# Altium schematic symbol library NOUMANPCBLIB.SchLib: 638 symbols (part 5 of 6)
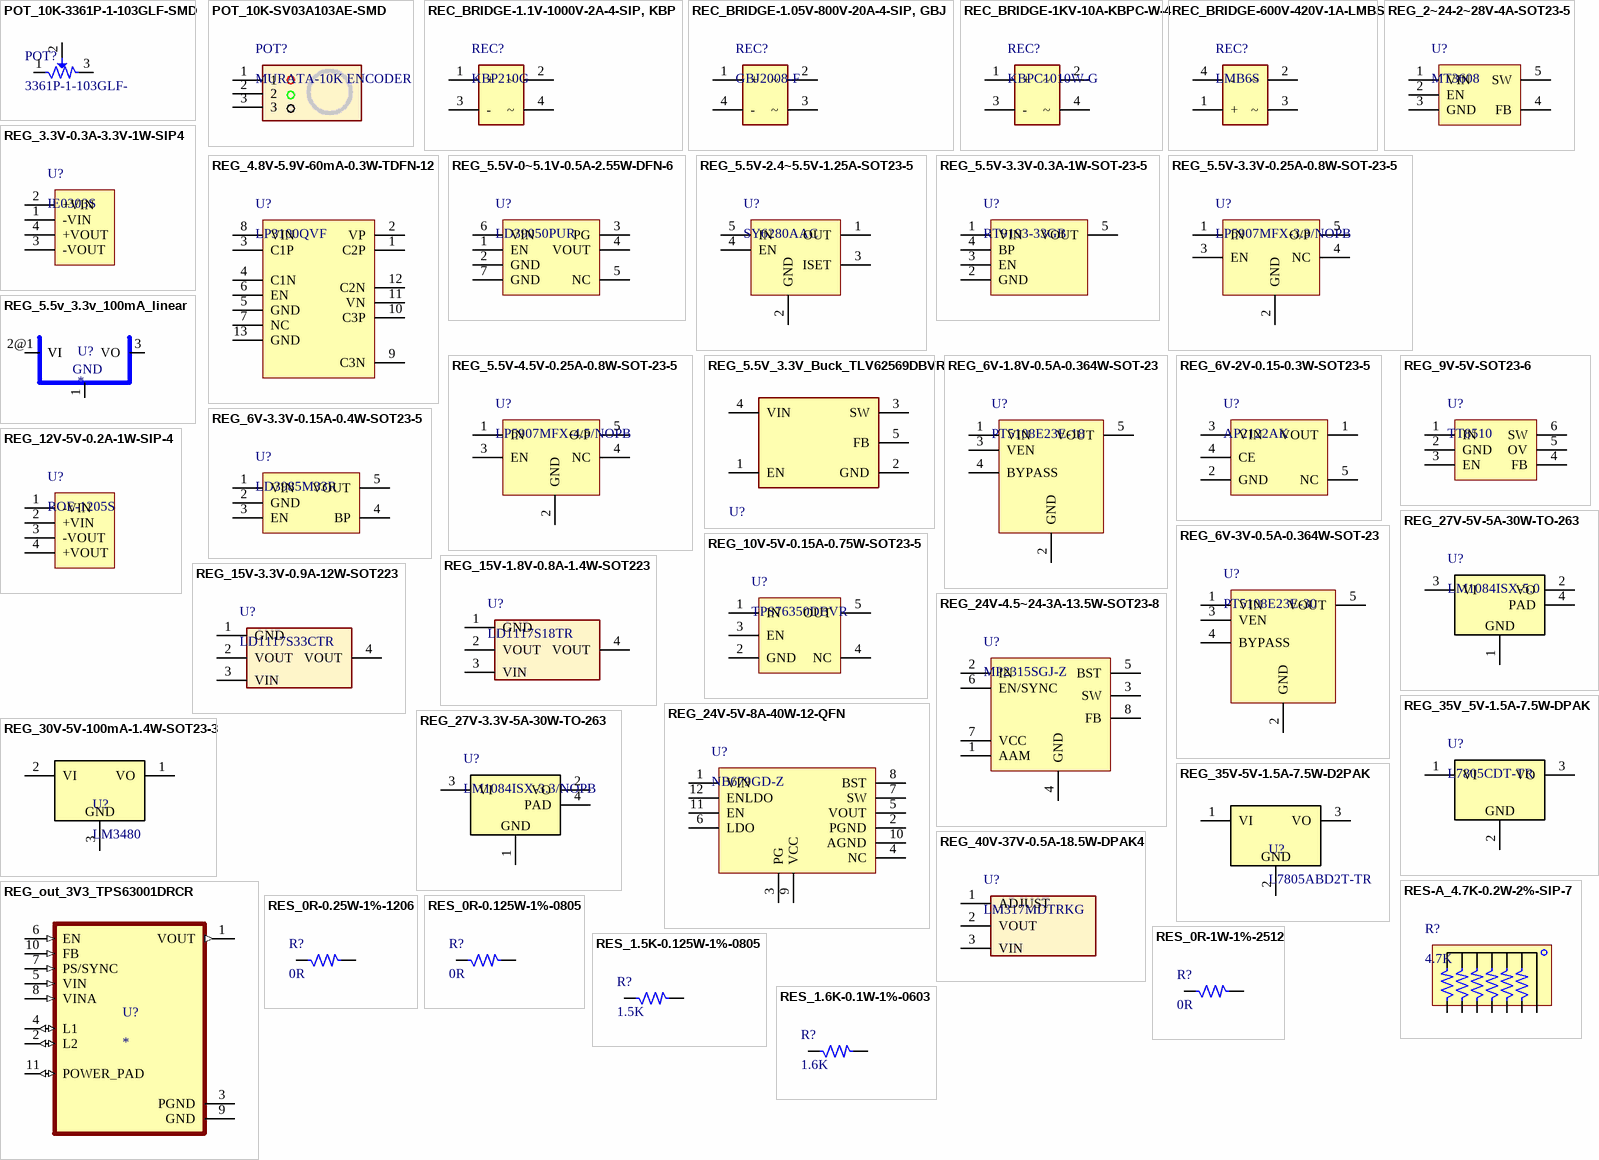
[diagram p22: symbols POT_10K-3361P-1-103GLF-SMD to RES_1.6K-0.1W-1%-0603]

## REG_2~24-2~28V-4A-SOT23-5
designator U?, comment MT3608
The MT3608 is a constant frequency, 6-pin SOT23 / current mode step-up converter; Manufacturer: AEROSEMI; Alternate Part Number-1: NA; Manufacturer Part Number: MT3608; Case/Package: SOT-23-5; Supplier-1: NA; Supplier Part Number-1: NA
footprint SOT23-5 (CASE: SOT)
pins: 1 VIN, 2 EN, 3 GND, 4 FB, 5 SW

## REG_3.3V-0.3A-3.3V-1W-SIP4
designator U?, comment IE0303S
Isolated Module DC DC Converter 1 Output 3.3V 300mA 2.97V - 3.63V Input; Manufacturer: Texas Instruments; Alternate Part Number-1: NA; Manufacturer Part Number: IE0303S; Case/Package: SIP4; Supplier-1: TANOTIS; Supplier Part Number-1: IE0303S
footprint SIP4_100_472_39X59_TH (SIP4)
pins: 1 -VIN, 2 +VIN, 3 -VOUT, 4 +VOUT

## REG_4.8V-5.9V-60mA-0.3W-TDFN-12
designator U?, comment LP3100QVF
TDFN-12 DC-DC Converters RoHS; Manufacturer: LOWPOWER; Alternate Part Number-1: NA; Manufacturer Part Number: LP3100QVF; Case/Package: TDFN-12; Supplier-1: LCSC; Supplier Part Number-1: C517004
footprint TDFN-12_19.6_170_33X10_SMD (TDFN-12 Package)
pins: 1 C2P, 2 VP, 3 C1P, 4 C1N, 5 GND, 6 EN, 7 NC, 8 VIN, 9 C3N, 10 C3P, 11 VN, 12 C2N, 13 GND

## REG_5.5V-0~5.1V-0.5A-2.55W-DFN-6
designator U?, comment LD39050PUR
Adjustable 5.5V 0.8V 500mA DFN-6 Linear Voltage Regulators RoHS; Manufacturer: STMicroelectronics; Alternate Part Number-1: NA; Manufacturer Part Number: LD39050PUR; Case/Package: DFN-6; Supplier-1: LCSC; Supplier Part Number-1: C222094
footprint DFN-6_37.4_165_33X15_SMD (DFN Package)
pins: 1 EN, 2 GND, 3 PG, 4 VOUT, 5 NC, 6 VIN, 7 GND

## REG_5.5V-2.4~5.5V-1.25A-SOT23-5
designator U?, comment SY6280AAC
SOT-23-5 PMIC - Power Distribution Switches RoHS; Manufacturer: Silergy Corp; Alternate Part Number-1: NA; Manufacturer Part Number: SY6280AAC; Case/Package: SOT-23-5; Supplier-1: LCSC; Supplier Part Number-1: C55136
footprint SOT23-5 (CASE: SOT)
pins: 1 OUT, 2 GND, 3 ISET, 4 EN, 5 IN

## REG_5.5V-3.3V-0.3A-1W-SOT-23-5
designator U?, comment RT9193-33GB
Linear Voltage Regulator IC 1 Output 300mA SOT-23-5; Manufacturer: Richtek USA Inc.; Alternate Part Number-1: NA; Manufacturer Part Number: RT9193-33GB; Supplier-1: LCSC; Supplier Part Number-1: C15651; Case/Package: SOT-23-5
footprint SOT23-5 (CASE: SOT)
pins: 1 VIN, 2 GND, 3 EN, 4 BP, 5 VOUT

## REG_5.5V-3.3V-0.25A-0.8W-SOT-23-5
designator U?, comment LP5907MFX-3.3/NOPB
Linear Voltage Regulator IC 1 Output 250mA SOT-23-5; Manufacturer: Recom; Alternate Part Number-1: NA; Manufacturer Part Number: LP5907MFX-3.3/NOPB; Case/Package: SOT-23-5; Supplier-1: SP ROAD; Supplier Part Number-1: LP5907MFX-3.3/NOPB
footprint SOT23-5 (CASE: SOT)
pins: 1 IN, 2 GND, 3 EN, 4 NC, 5 O/P

## REG_5.5V-4.5V-0.25A-0.8W-SOT-23-5
designator U?, comment LP5907MFX-4.5/NOPB
Linear Voltage Regulator IC 1 Output 250mA SOT-23-5; Manufacturer: STMicroelectronics; Alternate Part Number-1: NA; Manufacturer Part Number: LP5907MFX-4.5/NOPB; Case/Package: SOT-23-5; Supplier-1: SP ROAD; Supplier Part Number-1: LP5907MFX-4.5/NOPB
footprint SOT23-5 (CASE: SOT)
pins: 1 IN, 2 GND, 3 EN, 4 NC, 5 O/P

## REG_5.5v_3.3v_100mA_linear
designator U?
Smd c.Int. HT-7533-1 (Sot-89)Tape&Reel h Oltek.; MF: Holtek; MP: HT7533-1; Package: SOT-89 Holtek; Price: None; Value: *; SnapEDA_Link: https://www.snapeda.com/parts/HT7533-1/Holtek/view-part/?ref=snap; Availability: Not in stock; Check_prices: https://www.snapeda.com/parts/HT7533-1/Holtek/view-part/?ref=eda
footprint HT-7533-1
pins: 1 GND, 2 VI, 2@1 VI, 3 VO

## REG_5.5V_3.3V_Buck_TLV62569DBVR
designator U?  (value not drawn)
TLV62569DBVR
footprint Texas_Instruments_DBV0005A_IPC_A
pins: 1 EN, 2 GND (power), 3 SW (power), 4 VIN (power), 5 FB

## REG_6V-1.8V-0.5A-0.364W-SOT-23
designator U?, comment PT5108E23E-18
The PT5108 is a low-dropout voltage regulator designed for portable applications that require both low noise performance / and board space.; Manufacturer: POWTECH; Alternate Part Number-1: NA; Manufacturer Part Number: PT5108E23E-1; Case/Package: SOT-23; Supplier-1: NA; Supplier Part Number-1: NA
footprint SOT23-5 (CASE: SOT)
pins: 1 VIN, 2 GND, 3 VEN, 4 BYPASS, 5 VOUT

## REG_6V-2V-0.15-0.3W-SOT23-5
designator U?, comment AP2122AK
Linear Voltage Regulator IC Positive Fixed 1 Output 150mA SOT-23-5; Manufacturer: TI National Semiconductor; Manufacturer Part Number: AP2122AK-3.0TRG1; Alternate Part Number-1: NA; Case/Package: SOT23-5; Supplier-1: LCSC; Supplier Part Number-1: AP2122AK
footprint SOT23-5 (CASE: SOT)
pins: 1 VOUT, 2 GND, 3 VIN, 4 CE, 5 NC

## REG_6V-3.3V-0.15A-0.4W-SOT23-5
designator U?, comment LD3985M33R
Linear Voltage Regulator IC 1 Output 150mA SOT-23-5; Manufacturer: TI National Semiconductor; Alternate Part Number-1: NA; Manufacturer Part Number: LD3985M33R; Case/Package: SOT23-5; Supplier-1: LCSC; Supplier Part Number-1: LD3985M33R
footprint SOT23-5 (CASE: SOT)
pins: 1 VIN, 2 GND, 3 EN, 4 BP, 5 VOUT

## REG_6V-3V-0.5A-0.364W-SOT-23
designator U?, comment PT5108E23E-30
The PT5108 is a low-dropout voltage regulator designed for portable applications that require both low noise performance / and board space.; Manufacturer: POWTECH; Alternate Part Number-1: NA; Manufacturer Part Number: PT5108E23E-30; Case/Package: SOT-23; Supplier-1: NA; Supplier Part Number-1: NA
footprint SOT23-5 (CASE: SOT)
pins: 1 VIN, 2 GND, 3 VEN, 4 BYPASS, 5 VOUT

## REG_9V-5V-SOT23-6
designator U?, comment TT8510
Boost Converter IC-SOT-23-6 Pckage; Manufacturer: NA; Manufacturer Part Number: TT8510; Case/Package: SOT-23-6; Supplier-1: NA; Supplier Part Number-1: NA; Alternate Part Number-1: NA
footprint SOT23-6 (CASE: SOT)
pins: 1 IN, 2 GND, 3 EN, 4 FB, 5 OV, 6 SW

## REG_10V-5V-0.15A-0.75W-SOT23-5
designator U?, comment TPS76350DBVR
Linear Voltage Regulator IC 1 Output 150mA SOT-23-5; Manufacturer: XP Power; Alternate Part Number-1: NA; Manufacturer Part Number: TPS76350DBVR; Case/Package: SOT23-5; Supplier-1: ARROW; Supplier Part Number-1: TPS76350DBVR
footprint SOT23-5 (CASE: SOT)
pins: 1 IN, 2 GND, 3 EN, 4 NC, 5 OUT

## REG_12V-5V-0.2A-1W-SIP-4
designator U?, comment ROE-1205S
Isolated Module DC DC Converter 1 Output 5V 200mA 10.8V - 13.2V Input; Manufacturer: Texas Instruments; Alternate Part Number-1: NA; Manufacturer Part Number: ROE-1205S; Case/Package: SIP-4; Supplier-1: ARROW; Supplier Part Number-1: ROE-1205S
footprint SIP4_100_472_39X59_TH (SIP4)
pins: 1 -VIN, 2 +VIN, 3 -VOUT, 4 +VOUT

## REG_15V-1.8V-0.8A-1.4W-SOT223
designator U?, comment LD1117S18TR
LDO Voltage Regulators 1.8V 0.8A Positive; Manufacturer: STMicroelectronics; Alternate Part Number-1: NA; Manufacturer Part Number: LD1117S18TR; Case/Package: SOT-223-3; Supplier-1: Mouser; Supplier Part Number-1: 511-LD1117S18-TR
footprint SOT223_3 (CASE: SOT223)
pins: 1 GND, 2 VOUT, 3 VIN, 4 VOUT

## REG_15V-3.3V-0.9A-12W-SOT223
designator U?, comment LD1117S33CTR
Linear Voltage Regulator IC 1 Output 800mA SOT-223; Manufacturer: STMicroelectronics; Alternate Part Number-1: NA; Manufacturer Part Number: LD1117S33CTR; Case/Package: SOT223; Supplier-1: SP ROAD; Supplier Part Number-1: LD1117S33CTR
footprint SOT223_3
pins: 1 GND, 2 VOUT, 3 VIN, 4 VOUT

## REG_24V-4.5~24-3A-13.5W-SOT23-8
designator U?, comment MP2315SGJ-Z
Switching Voltage Regulators 3A 24V Hi Effc.Sync Step Down Converter; Manufacturer: Monolithic Power Systems (MPS); Alternate Part Number-1: NA; Manufacturer Part Number: MP2315SGJ-Z; Case/Package: SOT-23-8; Supplier-1: Mouser; Supplier Part Number-1: 946-MP2315SGJ-Z
footprint SOT23-8 (Case-SOT)
pins: 1 AAM, 2 IN, 3 SW, 4 GND, 5 BST, 6 EN/SYNC, 7 VCC, 8 FB

## REG_24V-5V-8A-40W-12-QFN
designator U?, comment NB679GD-Z
PMIC - Voltage Regulators - Linear + Switching 2 Output Step-Down (Buck) Synchronous (1), Linear (LDO) (1) 700kHz 12-QFN (2x3); Manufacturer: Monolithic Power Systems Inc.; Alternate Part Number-1: NA; Manufacturer Part Number: NB679GD-Z; Case/Package: QFN-12; Supplier-1: Digikey; Supplier Part Number-1: 1589-1825-1-ND
footprint QFN12_19.6_141_27.5X9.84_SMD (QFN Package)
pins: 1 VIN, 2 PGND, 3 PG, 4 NC, 5 VOUT, 6 LDO, 7 SW, 8 BST, 9 VCC, 10 AGND, 11 EN, 12 ENLDO

## REG_27V-3.3V-5A-30W-TO-263
designator U?, comment LM1084ISX-3.3/NOPB
Linear Voltage Regulator IC 1 Output 5A DDPAK/TO-263-3; Manufacturer: STMicroelectronics; Alternate Part Number-1: NA; Manufacturer Part Number: LM1084ISX-3.3/NOPB; Case/Package: TO-263; Supplier-1: Mouser; Supplier Part Number-1: 926-LM1084ISX33NOPB
footprint TO-263-3_102_433_181X45_SMD
pins: 1, 2 VO, 3 VI, 4 PAD
text: GND

## REG_27V-5V-5A-30W-TO-263
designator U?, comment LM1084ISX-5.0
Linear Voltage Regulator IC 1 Output 5A DDPAK/TO-263-3; Manufacturer: ON Semiconductor; Manufacturer Part Number: LM1084ISX-5.0/NOPBCT-ND; Alternate Part Number-1: SPX29300T-L-5-0/TR; Case/Package: TO-263; Supplier-1: Mouser; Supplier Part Number-1: 926-LM1084ISX50NOPB
footprint TO-263-3_102_433_181X45_SMD
pins: 1, 2 VO, 3 VI, 4 PAD
text: GND

## REG_30V-5V-100mA-1.4W-SOT23-3
designator U?, comment LM3480
Linear Voltage Regulator IC 1 Output 100mA SOT-23-3; Manufacturer: Texas Instruments; Manufacturer Part Number: LM3480IM3-5.0/NOPB; Alternate Part Number-1: NA; Case/Package: SOT23-3; Supplier-1: CATLOG COMPONENTS; Supplier Part Number-1: LM3480IM3-5.0/NOPB
footprint SOT 23-3
pins: 1 VO, 2 VI, 3
text: GND

## REG_35V-5V-1.5A-7.5W-D2PAK
designator U?, comment L7805ABD2T-TR
Linear Voltage Regulator IC 1 Output 1.5A D2PAK; Manufacturer: Texas Instruments; Alternate Part Number-1: NA; Manufacturer Part Number: L7805ABD2T-TR; Case/Package: D2PAK; Supplier-1: SP ROAD; Supplier Part Number-1: L7805ABD2T-TR
footprint D2PAK4_94.4_433_43X133_SMD
pins: 1 VI, 2, 3 VO
text: GND

## REG_35V_5V-1.5A-7.5W-DPAK
designator U?, comment L7805CDT-TR
Linear Voltage Regulator IC 1 Output 1.5A DPAK; Manufacturer: Diodes; Alternate Part Number-1: CJ7805 3%; Manufacturer Part Number: L7805CDT-TR; Case/Package: DPAK; Supplier-1: SP ROAD; Supplier Part Number-1: L7805CDT-TR
footprint DPAK_118_446_112X59_SMD (CASE: DPAK)
pins: 1 VI, 2, 3 VO
text: GND

## REG_40V-37V-0.5A-18.5W-DPAK4
designator U?, comment LM317MDTRKG
Linear Voltage Regulator IC Positive Adjustable 1 Output 500mA DPAK; Manufacturer: STMicroelectronics; Alternate Part Number-1: NA; Manufacturer Part Number: LM317MDTRKG; Case/Package: DPAK4; Supplier-1: SP ROAD; Supplier Part Number-1: LM317MDTRKG
footprint DPAK_118_446_112X59_SMD (CASE: DPAK)
pins: 1 ADJUST, 2 VOUT, 3 VIN

## REG_out_3V3_TPS63001DRCR
designator U?
96% Buck-Boost Converter with 1.7A Current Switches, 3.3V fixed Output voltage in 3x3 QFN 10-VSON -40 to 85; MF: Texas Instruments; MP: TPS63001DRCR; Texas_Instruments-Purchase-URL: https://snapeda.com/shop?store=Texas+Instruments&id=214718; Value: *; Availability: Good; SnapEDA_Link: https://www.snapeda.com/parts/TPS63001DRCR/Texas%20Instruments/view-part/214718/?ref=snap; Mouser-Purchase-URL: https://snapeda.com/shop?store=Mouser&id=214718; Package: VSON-10 Texas Instruments; DigiKey-Purchase-URL: https://snapeda.com/shop?store=DigiKey&id=214718; Price: None
footprint VREG_V62/16624-01YE
pins: 1 VOUT (out), 2 L2 (io), 3 PGND (power), 4 L1 (io), 5 VIN (in), 6 EN (in), 7 PS/SYNC (in), 8 VINA (in), 9 GND (power), 10 FB (in), 11 POWER_PAD (io)

## RES-A_4.7K-0.2W-2%-SIP-7
designator R?, comment 4.7K
4.7k Ohm ±2% 200mW Power Per Element Bussed Resistor Network/Array ±100ppm/°C 7-SIP; Manufacturer: Bourns Inc.; Manufacturer Part Number: 4607X-101-472LF; Alternate Part Number-1: NA; Case/Package: SIP-7; Supplier-1: Arrow; Supplier Part Number-1: 4607X-101-472LF
footprint RES_SIP-7 (Resister Array)
pins: 1, 2, 3, 4, 5, 6, 7

## RES_0R-0.25W-1%-1206
designator R?, comment 0R
0 Ohms Jumper 0.25W, 1/4W Chip Resistor 1206 (3216 Metric) Automotive AEC-Q200 Thick Film; Manufacturer: Walsin; Manufacturer Part Number: WR12X000PTL; Alternate Part Number-1: NA; Case/Package: 1206; Supplier-1: SIRICOM; Supplier Part Number-1: WR12X000PTL
footprint RES_1206
pins: 1, 2

## RES_0R-0.125W-1%-0805
designator R?, comment 0R
0 Ohms Jumper 0.125W, 1/8W Chip Resistor 0805 (2012 Metric) Automotive AEC-Q200 Thick Film; Manufacturer: Walsin; Manufacturer Part Number: WR08X000PTL; Case/Package: 0805; Supplier-1: SIRICOM; Supplier Part Number-1: WR08X000PTL; Alternate Part Number-1: WR08X000PTL
footprint RES_0805 (Resister)
pins: 1, 2

## RES_0R-1W-1%-2512
designator R?, comment 0R
0 Ohms Jumper 1W Chip Resistor 2512 (6432 Metric) Moisture Resistant Thick Film; Manufacturer: Yageo; Manufacturer Part Number: RC2512JK-070RL; Alternate Part Number-1: NA; Case/Package: 2512; Supplier-1: SIRICOM; Supplier Part Number-1: NA
footprint RES_2512 (CASE: 2512)
pins: 1, 2

## RES_1.5K-0.125W-1%-0805
designator R?, comment 1.5K
1.5 kOhms ±1% 0.125W, 1/8W Chip Resistor 0805 (2012 Metric) Thick Film; Manufacturer: TE Connectivity Passive Product; Manufacturer Part Number: CRG0805F1K5; Alternate Part Number-1: NA; Case/Package: 0805; Supplier-1: SIRICOM; Supplier Part Number-1: NA
footprint RES_0805 (Resister)
pins: 1, 2

## RES_1.6K-0.1W-1%-0603
designator R?, comment 1.6K
1.6 kOhms ±1% 0.1W, 1/10W Chip Resistor 0603 (1608 Metric) Thin Film; Manufacturer: NA; Manufacturer Part Number: NA; Case/Package: 0603; Supplier-1: SIRICOM; Supplier Part Number-1: NA; Alternate Part Number-1: NA
footprint RES_0603
pins: 1, 2

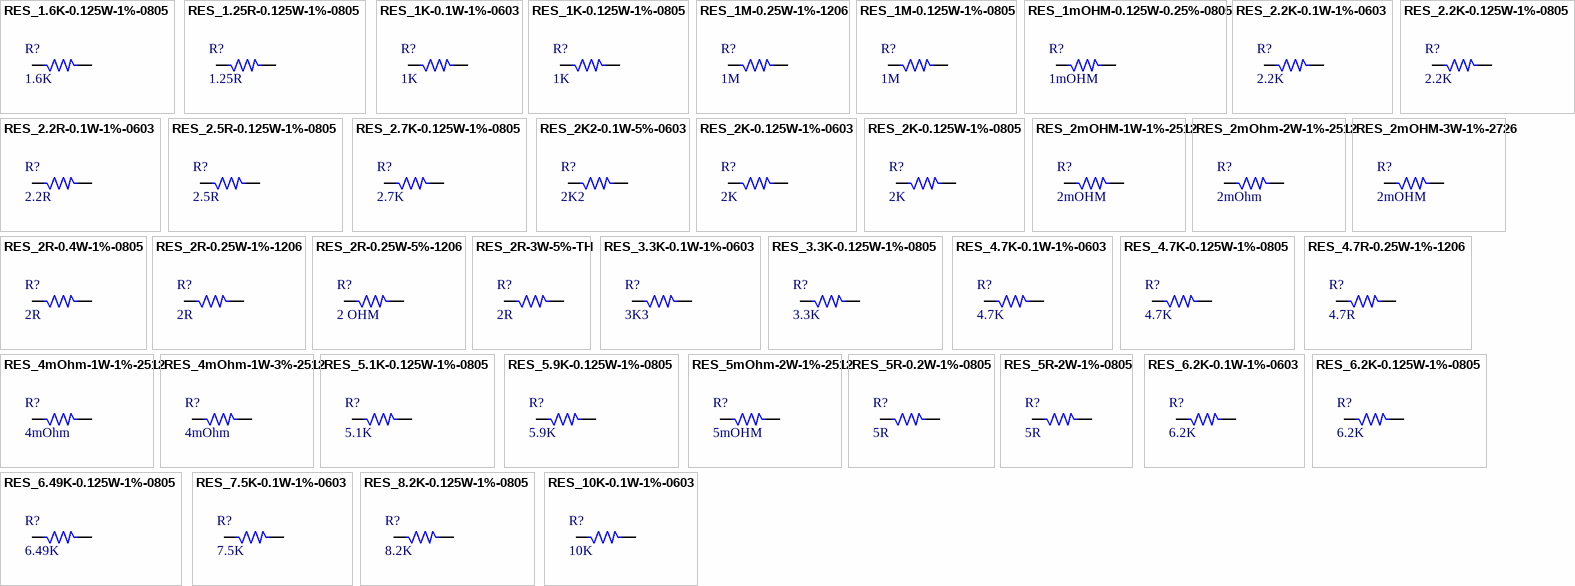
[diagram p15: symbols RES_1.6K-0.125W-1%-0805 to RES_10K-0.1W-1%-0603]

## RES_1.6K-0.125W-1%-0805
designator R?, comment 1.6K
1.6 kOhms ±1% 0.125W, 1/8W Chip Resistor 0805 (2012 Metric) Anti-Sulfur, Automotive AEC-Q200 Thin Film; Manufacturer: Walsin; Manufacturer Part Number: WR08X1601FTL; Alternate Part Number-1: NA; Case/Package: 0805; Supplier-1: SIRICOM; Supplier Part Number-1: WR08X1601FTL
footprint RES_0805
pins: 1, 2

## RES_1.25R-0.125W-1%-0805
designator R?, comment 1.25R
Thick Film Resistors 1/8watt 1.24ohms 1%; Manufacturer: Vishay / Dale; Manufacturer Part Number: CRCW08051R24FKEA; Alternate Part Number-1: NA; Case/Package: 0805; Supplier-1: SIRICOM; Supplier Part Number-1: NA
footprint RES_0805 (Resister)
pins: 1, 2

## RES_1K-0.1W-1%-0603
designator R?, comment 1K
1 kOhms ±1% 0.1W, 1/10W Chip Resistor 0603 (1608 Metric) Automotive AEC-Q200 Thick Film; Manufacturer: Walsin; Manufacturer Part Number: WR06X1001FTL; Alternate Part Number-1: 0603WAF1001T5E; Case/Package: 0603; Supplier-1: SIRICOM; Supplier Part Number-1: WR06X1001FTL
footprint RES_0603
pins: 1, 2

## RES_1K-0.125W-1%-0805
designator R?, comment 1K
1 kOhms ±1% 0.125W, 1/8W Chip Resistor 0805 (2012 Metric) Moisture Resistant Thick Film; Manufacturer: Walsin; Manufacturer Part Number: WR08X1001FTL; Case/Package: 0805; Supplier-1: SP ROAD; Supplier Part Number-1: RC0805JR-071KL; Alternate Part Number-1: WR08X1001FTL
footprint RES_0805
pins: 1, 2

## RES_1M-0.25W-1%-1206
designator R?, comment 1M
1 MOhms ±1% 0.25W, 1/4W Chip Resistor 1206 (3216 Metric) Automotive AEC-Q200, High Voltage Thick Film; Manufacturer: Walsin; Manufacturer Part Number: WR12X1004FTL; Alternate Part Number-1: NA; Case/Package: 1206; Supplier-1: SIRICOM; Supplier Part Number-1: WR12X1004FTL
footprint RES_1206
pins: 1, 2

## RES_1M-0.125W-1%-0805
designator R?, comment 1M
1 MOhms ±1% 0.125W, 1/8W Chip Resistor 0805 (2012 Metric) Automotive AEC-Q200 Thick Film; Manufacturer: Walsin; Manufacturer Part Number: WR08X1004FTL; Alternate Part Number-1: 0805W8F1004T5E; Case/Package: 0805; Supplier-1: SIRICOM; Supplier Part Number-1: WR08X1004FTL
footprint RES_0805
pins: 1, 2

## RES_1mOHM-0.125W-0.25%-0805
designator R?, comment 1mOHM
1.02 MOhms ±0.25% 0.125W, 1/8W Chip Resistor 0805 (2012 Metric) Thin Film; Manufacturer: Vishay Dale; Manufacturer Part Number: RT0805CRE071M02L; Alternate Part Number-1: NA; Case/Package: 0805; Supplier-1: Mouser; Supplier Part Number-1: RT0805CRE071M02L
footprint RES_0805
pins: 1, 2

## RES_2.2K-0.1W-1%-0603
designator R?, comment 2.2K
2.2 kOhms ±1% 0.1W, 1/10W Chip Resistor 0603 (1608 Metric) Automotive AEC-Q200 Thick Film; Manufacturer: Walsin; Manufacturer Part Number: WR06X2201FTL; Case/Package: 0603; Supplier-1: SIRICOM; Supplier Part Number-1: WR06X2201FTL; Alternate Part Number-1: WR06X2201FTL
footprint RES_0603
pins: 1, 2

## RES_2.2K-0.125W-1%-0805
designator R?, comment 2.2K
2.2 kOhms ±1% 0.125W, 1/8W Chip Resistor 0805 (2012 Metric) Thick Film; Manufacturer: Stackpole Electronics; Manufacturer Part Number: CRG0805F2K2; Alternate Part Number-1: CR0805F82201G; Case/Package: 0805; Supplier-1: SIRICOM; Supplier Part Number-1: WR08X2201FTL
footprint RES_0805
pins: 1, 2

## RES_2.2R-0.1W-1%-0603
designator R?, comment 2.2R
2.2 Ohms ±1% 0.1W, 1/10W Chip Resistor 0603 (1608 Metric) Automotive AEC-Q200, Current Sense Thick Film; Manufacturer: Panasonic Electronic Components; Manufacturer Part Number: ERJ-3RQF2R2V; Alternate Part Number-1: NA; Case/Package: 0603; Supplier-1: SIRICOM; Supplier Part Number-1: NA
footprint RES_0603 (CASE: 0603)
pins: 1, 2

## RES_2.5R-0.125W-1%-0805
designator R?, comment 2.5R
2.5 Ohms ±1% 0.125W, 1/8W Chip Resistor 0805 (2012 Metric) Automotive AEC-Q200 Thick Film; Manufacturer: Vishay Dale; Manufacturer Part Number: CRCW08052R50FKTA; Alternate Part Number-1: NA; Case/Package: 0805; Supplier-1: SIRICOM; Supplier Part Number-1: NA
footprint RES_0805 (Resister)
pins: 1, 2

## RES_2.7K-0.125W-1%-0805
designator R?, comment 2.7K
2.7 kOhms ±1% 0.125W, 1/8W Chip Resistor 0805 (2012 Metric) Thick Film; Manufacturer: Stackpole Electronics; Manufacturer Part Number: 1623181-1; Alternate Part Number-1: NA; Case/Package: 0805; Supplier-1: SIRICOM; Supplier Part Number-1: WR08X2701FTL
footprint RES_0805 (Resister)
pins: 1, 2

## RES_2K2-0.1W-5%-0603
designator R?, comment 2K2
2.2 kOhms ±5% 0.1W, 1/10W Chip Resistor 0603 (1608 Metric) Automotive AEC-Q200 Thick Film; Manufacturer: Stackpole Electronics; Manufacturer Part Number: ERJ-3GEYJ222V; Alternate Part Number-1: WR06X2201FTL; Case/Package: 0603; Supplier-1: SIRICOM; Supplier Part Number-1: WR06X2201FTL
footprint RES_0603
pins: 1, 2

## RES_2K-0.125W-1%-0603
designator R?, comment 2K
2 kOhms ±1% 0.125W, 1/8W Chip Resistor 0603 (1608 Metric) Anti-Sulfur, Moisture Resistant Thin Film; Manufacturer: Stackpole Electronics; Manufacturer Part Number: RNCP0603FTD2K00; Alternate Part Number-1: NA; Case/Package: 0603; Supplier-1: SIRICOM; Supplier Part Number-1: WR06X2001FTL
footprint RES_0603
pins: 1, 2

## RES_2K-0.125W-1%-0805
designator R?, comment 2K
2 kOhms ±1% 0.125W, 1/8W Chip Resistor 0805 (2012 Metric) Moisture Resistant Thick Film; Manufacturer: TE Connectivity; Manufacturer Part Number: RC0805FR-072KL; Alternate Part Number-1: NA; Case/Package: 0805; Supplier-1: SIRICOM; Supplier Part Number-1: WR08X2001FTL
footprint RES_0805
pins: 1, 2

## RES_2mOHM-1W-1%-2512
designator R?, comment 2mOHM
0.002Ohms 3W 1% 2512 Current Sense Resistors - SMD; Manufacturer: Johanson; Manufacturer Part Number: RNC20EQ00R002FE; Alternate Part Number-1: NA; Case/Package: 2512; Supplier-1: Siricom; Supplier Part Number-1: NA
footprint RES_2512 (CASE: 2512)
pins: 1, 2

## RES_2mOhm-2W-1%-2512
designator R?, comment 2mOhm
0.002 Ohm 1% 2W Res Metal Strip 2512 ±100ppm/°C Pad SMD T/R; Manufacturer: NIC Components; Manufacturer Part Number: NCSS25EFR002TRNF; Alternate Part Number-1: NA; Case/Package: 2512; Supplier-1: Arrow; Supplier Part Number-1: NCSS25EFR002TRNF
footprint RES_2512 (CASE: 2512)
pins: 1, 2

## RES_2mOHM-3W-1%-2726
designator R?, comment 2mOHM
2 mOhms ±1% 3W Chip Resistor Nonstandard Anti-Sulfur, Automotive AEC-Q200, Current Sense, Moisture Resistant, Pulse Withstanding Metal Element; Manufacturer: TE Connectivity; Manufacturer Part Number: WSL27262L000FEB; Alternate Part Number-1: NA; Case/Package: 2726; Supplier-1: Mouser; Supplier Part Number-1: 71-WSL27262L000FEB
footprint RES_2726
pins: 1, 2

## RES_2R-0.4W-1%-0805
designator R?, comment 2R
2 Ohms ±1% 0.4W, 2/5W Chip Resistor 0805 (2012 Metric) Automotive AEC-Q200, Pulse Withstanding Thick Film; Manufacturer: Bourns; Manufacturer Part Number: ESR10EZPF2R00; Alternate Part Number-1: NA; Case/Package: 0805; Supplier-1: SIRICOM; Supplier Part Number-1: WR08W2R00FTL
footprint RES_0805
pins: 1, 2

## RES_2R-0.25W-1%-1206
designator R?, comment 2R
2 Ohms ±1% 0.25W, 1/4W Chip Resistor 1206 (3216 Metric) Moisture Resistant Thick Film; Manufacturer: Stackpole Electronics; Manufacturer Part Number: RC1206FR-072RL; Alternate Part Number-1: NA; Case/Package: 1206; Supplier-1: SP ROAD; Supplier Part Number-1: RC1206FR-072RL
footprint RES_1206
pins: 1, 2

## RES_2R-0.25W-5%-1206
designator R?, comment 2 OHM
2 Ohms ±5% 0.25W, 1/4W Chip Resistor 1206 (3216 Metric) Automotive AEC-Q200 Thick Film; Manufacturer: Stackpole Electronics; Manufacturer Part Number: ERJ-8GEYJ2R0V; Alternate Part Number-1: NA; Case/Package: 1206; Supplier-1: SIRICOM; Supplier Part Number-1: WR12X2R2JTL
footprint RES_1206
pins: 1, 2

## RES_2R-3W-5%-TH
designator R?, comment 2R
2 Ohms ±5% 3W Through Hole Resistor Axial Flame Retardant Coating, Pulse Withstanding, Safety Wirewound; Manufacturer: Riedon; Manufacturer Part Number: AC03000002008JAC00; Alternate Part Number-1: NA; Case/Package: TH; Supplier-1: SP ROAD; Supplier Part Number-1: AC03000002008JAC00
footprint RES_753_TH
footprint RES_753_TH_INDC
pins: 1, 2

## RES_3.3K-0.1W-1%-0603
designator R?, comment 3K3
3.3 kOhms ±1% 0.1W, 1/10W Chip Resistor 0603 (1608 Metric) Automotive AEC-Q200 Thick Film; Manufacturer: Wilson; Manufacturer Part Number: WR06X3301FTL; Alternate Part Number-1: 0603WAF3301T5E; Case/Package: 0603; Supplier-1: SIRICOM; Supplier Part Number-1: WR06X3301FTL
footprint RES_0603
pins: 1, 2

## RES_3.3K-0.125W-1%-0805
designator R?, comment 3.3K
3.3 kOhms ±1% 0.125W, 1/8W Chip Resistor 0805 (2012 Metric) Thick Film; Manufacturer: Panasonic; Manufacturer Part Number: 1623214-1; Alternate Part Number-1: 0805W8F3301T5E; Case/Package: 0805; Supplier-1: SIRICOM; Supplier Part Number-1: WR08X3301FTL
footprint RES_0805
pins: 1, 2

## RES_4.7K-0.1W-1%-0603
designator R?, comment 4.7K
4.7 kOhms ±1% 0.1W, 1/10W Chip Resistor 0603 (1608 Metric) Moisture Resistant Thick Film; Manufacturer: Walsin; Manufacturer Part Number: WR06X4701FTL; Alternate Part Number-1: MR06X4701FTL; Case/Package: 0603; Supplier-1: SIRICOM; Supplier Part Number-1: WR06X4701FTL
footprint RES_0603
pins: 1, 2

## RES_4.7K-0.125W-1%-0805
designator R?, comment 4.7K
4.7 kOhms ±1% 0.125W, 1/8W Chip Resistor 0805 (2012 Metric) Moisture Resistant Thick Film; Manufacturer: TE Connectivity; Manufacturer Part Number: RC0805FR-074K7L; Alternate Part Number-1: 0805W8F4701T5E; Case/Package: 0805; Supplier-1: SIRICOM; Supplier Part Number-1: WR08X4701FTL
footprint RES_0805
pins: 1, 2

## RES_4.7R-0.25W-1%-1206
designator R?, comment 4.7R
4.7 Ohms ±1% 0.25W, 1/2W Chip Resistor 1206 (3216 Metric) Current Sense Thin Film; Manufacturer: Walsin; Manufacturer Part Number: WR12W4R70FTL; Alternate Part Number-1: NA; Case/Package: 1206; Supplier-1: SIRICOM; Supplier Part Number-1: WR12W4R70FTL
footprint RES_1206
pins: 1, 2

## RES_4mOhm-1W-1%-2512
designator R?, comment 4mOhm
0.004 Ohm Res Metal Plate 2512  1% 1W ±75ppm/°C Pad SMD Automotive T/R; Manufacturer: Panasonic; Manufacturer Part Number: ERJMP4MF4M0U; Alternate Part Number-1: NA; Case/Package: 2512; Supplier-1: Arrow; Supplier Part Number-1: ERJMP4MF4M0U
footprint RES_2512 (CASE: 2512)
pins: 1, 2

## RES_4mOhm-1W-3%-2512
designator R?, comment 4mOhm
0.004 Ohm 3% Res Metal Strip 2512  1W ±100ppm/°C Pad SMD T/R; Manufacturer: NIC Components; Manufacturer Part Number: NCSR100HR004ETRF; Alternate Part Number-1: NA; Case/Package: 2512; Supplier-1: Arrow; Supplier Part Number-1: NCSR100HR004ETRF
footprint RES_2512 (CASE: 2512)
pins: 1, 2

## RES_5.1K-0.125W-1%-0805
designator R?, comment 5.1K
5.1 kOhms ±1% 0.125W, 1/8W Chip Resistor 0805 (2012 Metric) Moisture Resistant Thick Film; Manufacturer: Stackpole Electronics; Manufacturer Part Number: RC0805FR-075K9L; Alternate Part Number-1: NA; Case/Package: 0805; Supplier-1: SIRICOM; Supplier Part Number-1: WR08X5901FTL
footprint RES_0805 (Resister)
pins: 1, 2

## RES_5.9K-0.125W-1%-0805
designator R?, comment 5.9K
5.9 kOhms ±1% 0.125W, 1/8W Chip Resistor 0805 (2012 Metric) Moisture Resistant Thick Film; Manufacturer: Stackpole Electronics; Manufacturer Part Number: RC0805FR-075K9L; Alternate Part Number-1: NA; Case/Package: 0805; Supplier-1: SIRICOM; Supplier Part Number-1: WR08X5901FTL
footprint RES_0805 (Resister)
pins: 1, 2

## RES_5mOhm-2W-1%-2512
designator R?, comment 5mOHM
5 mOhms ±1% 2W Chip Resistor 2512 (6432 Metric) Automotive AEC-Q200, Current Sense Thick Film; Manufacturer: TE Connectivity; Manufacturer Part Number: PMR100HZPFU5L00; Alternate Part Number-1: MSH2512N2W0R005F; Case/Package: 2512; Supplier-1: ARROW; Supplier Part Number-1: PMR100HZPFU5L00
footprint RES_2512
pins: 1, 2

## RES_5R-0.2W-1%-0805
designator R?, comment 5R
5 Ohms ±1% 0.2W, 1/5W Chip Resistor 0805 (2012 Metric) Moisture Resistant, Non-Inductive Metal Foil; Manufacturer: Yageo; Manufacturer Part Number: Y16245R00000F9W; Alternate Part Number-1: NA; Case/Package: 0805; Supplier-1: SIRICOM; Supplier Part Number-1: WR08W5R10FTL
footprint RES_0805
pins: 1, 2

## RES_5R-2W-1%-0805
designator R?, comment 5R
5 Ohm 1% 300PPM Thin Film Resistors - SMD; Manufacturer: Panasonic; Manufacturer Part Number: L-0805M5R00FGTS; Alternate Part Number-1: NA; Case/Package: 0805; Supplier-1: SIRICOM; Supplier Part Number-1: WR08W5R10FTL
footprint RES_0805
pins: 1, 2

## RES_6.2K-0.1W-1%-0603
designator R?, comment 6.2K
6.2 kOhms ±1% 0.1W, 1/10W Chip Resistor 0603 (1608 Metric) Moisture Resistant Thick Film; Manufacturer: Walsin; Manufacturer Part Number: WR06X6201FTL; Alternate Part Number-1: 0603WAF6201T5E; Case/Package: 0603; Supplier-1: SIRICOM; Supplier Part Number-1: WR06X6201FTL
footprint RES_0603
pins: 1, 2

## RES_6.2K-0.125W-1%-0805
designator R?, comment 6.2K
6.2 kOhms ±1% 0.125W, 1/8W Chip Resistor 0805 (2012 Metric) Moisture Resistant Thick Film; Manufacturer: Stackpole Electronics; Manufacturer Part Number: RC0805FR-076K2L; Alternate Part Number-1: NA; Case/Package: 0805; Supplier-1: SIRICOM; Supplier Part Number-1: WR06X6201FTL
footprint RES_0805
pins: 1, 2

## RES_6.49K-0.125W-1%-0805
designator R?, comment 6.49K
6.49 kOhms ±1% 0.125W, 1/8W Chip Resistor 0805 (2012 Metric) Moisture Resistant Thick Film; Manufacturer: Stackpole Electronics; Manufacturer Part Number: RC0805FR-076K49L; Alternate Part Number-1: NA; Case/Package: 0805; Supplier-1: SIRICOM; Supplier Part Number-1: WRO8X6491FTL
footprint RES_0805 (Resister)
pins: 1, 2

## RES_7.5K-0.1W-1%-0603
designator R?, comment 7.5K
7.5 kOhms ±1% 0.1W, 1/10W Chip Resistor 0603 (1608 Metric) Moisture Resistant Thick Film; Manufacturer: Yageo; Manufacturer Part Number: RC0603FR-077K5L; Alternate Part Number-1: NA; Case/Package: 0603; Supplier-1: SIRICOM; Supplier Part Number-1: NA
footprint RES_0603 (CASE: 0603)
pins: 1, 2

## RES_8.2K-0.125W-1%-0805
designator R?, comment 8.2K
8.2 kOhms ±1% 0.125W, 1/8W Chip Resistor 0805 (2012 Metric) Anti-Sulfur, Moisture Resistant, Non-Inductive Metal Foil; Manufacturer: Walsin; Manufacturer Part Number: WR08X8201FTL; Alternate Part Number-1: NA; Case/Package: 0805; Supplier-1: SIRICOM; Supplier Part Number-1: WR08X8061FTL
footprint RES_0805
pins: 1, 2

## RES_10K-0.1W-1%-0603
designator R?, comment 10K
10 kOhms ±1% 0.1W, 1/10W Chip Resistor 0603 (1608 Metric) Automotive AEC-Q200 Thick Film; Manufacturer: Walsin; Manufacturer Part Number: WR06X1002FTL; Alternate Part Number-1: 0603WAJ0103T5E; Case/Package: 0603; Supplier-1: SIRICOM; Supplier Part Number-1: WR06X1002FTL
footprint RES_0603
pins: 1, 2

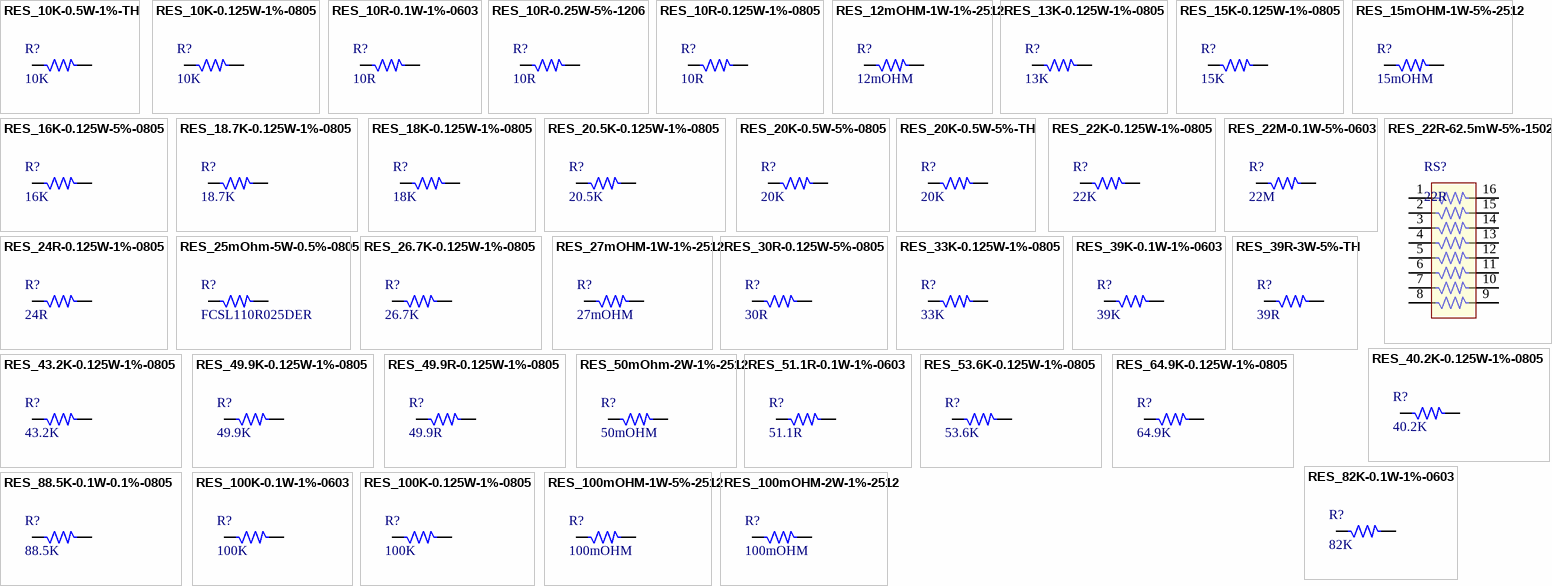
[diagram p16: symbols RES_10K-0.5W-1%-TH to RES_100mOHM-2W-1%-2512]

## RES_10K-0.5W-1%-TH
designator R?, comment 10K
10 kOhms ±1% 0.5W, 1/2W Through Hole Resistor Axial Metal Film / AXIAL; Manufacturer: Vishay BCcomponents; Manufacturer Part Number: SFR16S0001002FR500; Alternate Part Number-1: NA; Supplier 1: Digi-Key; Case/Package: Axial; ComponentLink1URL: https://datasheet.ciiva.com/28561/1911160-28561605.pdf?src-supplier=Element14; ComponentLink1Description: https://datasheet.ciiva.com/28561/1911160-28561605.pdf?src-supplier=Element14; ComponentLink2URL: https://datasheet.ciiva.com/16720/70122463-16720294.pdf?src-supplier=Allied+Electronics; ComponentLink2Description: https://datasheet.ciiva.com/16720/70122463-16720294.pdf?src-supplier=Allied+Electronics; ComponentLink3URL: https://datasheet.ciiva.com/2710/sfr16s25-2710487.pdf?src-supplier=Digi-Key; ComponentLink3Description: https://datasheet.ciiva.com/2710/sfr16s25-2710487.pdf?src-supplier=Digi-Key; ComponentLink4URL: https://datasheet.ciiva.com/2710/sfr16s25-2710488.pdf?src-supplier=Digi-Key; ComponentLink4Description: https://datasheet.ciiva.com/2710/sfr16s25-2710488.pdf?src-supplier=Digi-Key; ComponentLink5URL: https://datasheet.ciiva.com/7182/1819489-7182845.pdf?src-supplier=Newark; ComponentLink5Description: https://datasheet.ciiva.com/7182/1819489-7182845.pdf?src-supplier=Newark; ComponentLink6URL: https://datasheet.ciiva.com/16291/sfr16s25-16291262.pdf?src-supplier=Future+Electronics; ComponentLink6Description: https://datasheet.ciiva.com/16291/sfr16s25-16291262.pdf?src-supplier=Future+Electronics; ComponentLink7URL: https://datasheet.ciiva.com/3260/sfr16s25-3260959.pdf?src-supplier=Avnet; ComponentLink7Description: https://datasheet.ciiva.com/3260/sfr16s25-3260959.pdf?src-supplier=Avnet; Supplier Part Number-1: PPC10.0KXCT-ND; Supplier-1: SIRICOM
footprint RES_753_TH_INDC (CASE: TH)
pins: 1, 2

## RES_10K-0.125W-1%-0805
designator R?, comment 10K
10 kOhms ±1% 0.125W, 1/8W Chip Resistor 0805 (2012 Metric) Automotive AEC-Q200 Thick Film; Manufacturer: CTS; Manufacturer Part Number: WR08X1002FTL; Case/Package: 0805; Supplier-1: SIRICOM; Supplier Part Number-1: WR08X1002FTL; Alternate Part Number-1: WR08X1002FTL
footprint RES_0805
pins: 1, 2

## RES_10R-0.1W-1%-0603
designator R?, comment 10R
10 Ohms ±1% 0.1W, 1/10W Chip Resistor 0603 (1608 Metric) Automotive AEC-Q200, Moisture Resistant Thick Film; Manufacturer: Walsin; Manufacturer Part Number: WR06X10R0FTL; Alternate Part Number-1: RS-03K10R0FT; Case/Package: 0603; Supplier-1: SIRICOM; Supplier Part Number-1: WR06X10R0FTL
footprint RES_0603
pins: 1, 2

## RES_10R-0.25W-5%-1206
designator R?, comment 10R
10 Ohms ±5% 0.25W, 1/4W Chip Resistor 1206 (3216 Metric) Automotive AEC-Q200 Thick Film; Manufacturer: Yageo; Manufacturer Part Number: RMCF1206JT10R0; Alternate Part Number-1: NA; Case/Package: 1206; Supplier-1: SIRICOM; Supplier Part Number-1: WR12X10R0FTL
footprint RES_1206
pins: 1, 2

## RES_10R-0.125W-1%-0805
designator R?, comment 10R
10 Ohms ±1% 0.125W, 1/8W Chip Resistor 0805 (2012 Metric) Automotive AEC-Q200 Thick Film; Manufacturer: Walsin; Manufacturer Part Number: WR08X10R0FTL; Alternate Part Number-1: CR0805F810R0G; Case/Package: 0805; Supplier-1: SIRICOM; Supplier Part Number-1: WR08X10R0FTL
footprint RES_0805
pins: 1, 2

## RES_12mOHM-1W-1%-2512
designator R?, comment 12mOHM
12 mOhms ±1% 1W Chip Resistor 2512 (6432 Metric) Automotive AEC-Q200, Current Sense, Moisture Resistant Thick Film; Manufacturer: Yageo; Manufacturer Part Number: RL2512FK-070R012L; Alternate Part Number-1: 25121WJ012LT4E; Case/Package: 2512; Supplier-1: SIRICOM; Supplier Part Number-1: WW25NR015FTL
footprint RES_2512 (CASE: 2512)
pins: 1, 2

## RES_13K-0.125W-1%-0805
designator R?, comment 13K
13 kOhms ±1% 0.125W, 1/8W Chip Resistor 0805 (2012 Metric) Thick Film; Manufacturer: TE Connectivity Passive Product; Manufacturer Part NUMMBER: CRG0805F13K; Manufacturer Part Number: NA; Case/Package: 0805; Supplier-1: Siricom; Supplier Part Number-1: NA; Alternate Part Number-1: NA
footprint RES_0805 (Resister)
pins: 1, 2

## RES_15K-0.125W-1%-0805
designator R?, comment 15K
15 kOhms ±1% 0.125W, 1/8W Chip Resistor 0805 (2012 Metric) Moisture Resistant Thick Film; Manufacturer: Walsin; Manufacturer Part Number: WR08X1502FTL; Alternate Part Number-1: NA; Case/Package: 0805; Supplier-1: SIRICOM; Supplier Part Number-1: WR08X1502FTL
footprint RES_0805
pins: 1, 2

## RES_15mOHM-1W-5%-2512
designator R?, comment 15mOHM
15 MOhms ±5% 1W Chip Resistor 2512 (6432 Metric) High Voltage, Non-Magnetic Thick Film; Manufacturer: Yageo; Manufacturer Part Number: HVS2512-15MJ8; Alternate Part Number-1: NA; Case/Package: 2512; Supplier-1: SIRICOM; Supplier Part Number-1: WW25NR015FTL
footprint RES_2512
pins: 1, 2

## RES_16K-0.125W-5%-0805
designator R?, comment 16K
16 kOhms ±5% 0.125W, 1/8W Chip Resistor 0805 (2012 Metric) Moisture Resistant Thick Film; Manufacturer: Panasonic; Manufacturer Part Number: RC0805JR-0716KL; Alternate Part Number-1: NA; Case/Package: 0805; Supplier-1: SIRICOM; Supplier Part Number-1: WR08X1502FTL
footprint RES_0805
pins: 1, 2

## RES_18.7K-0.125W-1%-0805
designator R?, comment 18.7K
18.7 kOhms ±1% 0.125W, 1/8W Chip Resistor 0805 (2012 Metric) Automotive AEC-Q200 Thick Film; Manufacturer: Yageo; Manufacturer Part Number: RMCF0805FT18K7; Alternate Part Number-1: NA; Case/Package: 0805; Supplier-1: SIRICOM; Supplier Part Number-1: WR08X1872FTL
footprint RES_0805 (Resister)
pins: 1, 2

## RES_18K-0.125W-1%-0805
designator R?, comment 18K
18 kOhms ±1% 0.125W, 1/8W Chip Resistor 0805 (2012 Metric) Thick Film; Manufacturer: TE Connectivity Passive Product; Manufacturer Part Number: CRG0805F18K; Alternate Part Number-1: NA; Case/Package: 0805; Supplier-1: SIRICOM; Supplier Part Number: NA; Supplier Part Number-1: NA
footprint RES_0805 (Resister)
pins: 1, 2

## RES_20.5K-0.125W-1%-0805
designator R?, comment 20.5K
20.5 kOhms ±1% 0.125W, 1/8W Chip Resistor 0805 (2012 Metric) Moisture Resistant Thick Film; Manufacturer: Vishay; Manufacturer Part Number: RC0805FR-0720K5L; Alternate Part Number-1: NA; Case/Package: 0805; Supplier-1: SIRICOM; Supplier Part Number-1: WR08X2052FTL
footprint RES_0805 (Resister)
pins: 1, 2

## RES_20K-0.5W-5%-0805
designator R?, comment 20K
20 kOhms ±5% 0.5W, 1/2W Chip Resistor 0805 (2012 Metric) Automotive AEC-Q200, Pulse Withstanding Thick Film; Manufacturer: Panasonic; Manufacturer Part Number: ERJ-P06J203V; Alternate Part Number-1: NA; Case/Package: 0805; Supplier-1: SIRICOM; Supplier Part Number-1: WR08X2002FTL
footprint RES_0805
pins: 1, 2

## RES_20K-0.5W-5%-TH
designator R?, comment 20K
20 kOhms ±5% 0.5W, 1/2W Through Hole Resistor Axial Flame Retardant Coating, Safety Carbon Film; Manufacturer: Rohm; Manufacturer Part Number: CFM12JT20K0; Alternate Part Number-1: NA; Case/Package: TH; Supplier-1: SP ROAD; Supplier Part Number-1: CFM12JT20K0
footprint RES_393_TH (RESISTER)
pins: 1, 2

## RES_22K-0.125W-1%-0805
designator R?, comment 22K
22 kOhms ±1% 0.125W, 1/8W Chip Resistor 0805 (2012 Metric) Automotive AEC-Q200 Thick Film; Manufacturer: Walsin; Manufacturer Part Number: WR08X2202FTL; Alternate Part Number-1: NA; Case/Package: 0805; Supplier-1: SIRICOM; Supplier Part Number-1: WR08X2202FTL
footprint RES_0805
pins: 1, 2

## RES_22M-0.1W-5%-0603
designator R?, comment 22M
22M ±5% 1/10W ±100ppm/°C 0603 Chip Resistor - Surface Mount RoHS; Manufacturer: UNI-ROYAL(Uniroyal Elec); Manufacturer Part Number: 0603WAJ0226T5E; Alternate Part Number-1: NA; Case/Package: 0603; Supplier-1: LCSC; Supplier Part Number-1: C33143
footprint RES_0603 (CASE: 0603)
pins: 1, 2

## RES_22R-62.5mW-5%-1502
designator RS?, comment 22R
22 Ohm ±5% 62.5mW Power Per Element Isolated Resistor Network/Array ±200ppm/°C 1506, Convex, Long Side Terminals; Manufacturer: Riedon; Manufacturer Part Number: 741X163220JP; Alternate Part Number-1: NA; Case/Package: 1502; Supplier-1: SIRICOM; Supplier Part Number-1: WR12X22R0FTL
footprint RES_1506 (RES-ARRAY)
pins: 1, 2, 3 1, 4 1, 5 1, 6 1, 7 1, 8 1, 9 2, 10 2, 11 2, 12 2, 13 2, 14 2, 15 2, 16 2

## RES_24R-0.125W-1%-0805
designator R?, comment 24R
24 Ohms ±0.5% 0.1W, 1/10W Chip Resistor 0805 (2012 Metric) Moisture Resistant Thin Film; Manufacturer: TE Connectivity; Manufacturer Part Number: RN732ATTD24R0D50; Alternate Part Number-1: NA; Case/Package: 0805; Supplier-1: SIRICOM; Supplier Part Number-1: WR08X24R0FTL
footprint RES_0805
pins: 1, 2

## RES_25mOhm-5W-0.5%-0805
designator R?, comment FCSL110R025DER
25 mOhms ±0.5% 5W Chip Resistor Wide 4320 (11050 Metric), 2043 Current Sense, Moisture Resistant Metal Foil; Manufacturer: Yageo; Alternate Part Number-1: NA; Manufacturer Part Number: FCSL110R025DER; Case/Package: 0805; Supplier-1: Mouser; Supplier Part Number-1: 588-FCSL110R025DER
footprint RES_0805
pins: 1, 2

## RES_26.7K-0.125W-1%-0805
designator R?, comment 26.7K
26.7 kOhms ±1% 0.125W, 1/8W Chip Resistor 0805 (2012 Metric) Moisture Resistant Thick Film; Manufacturer: Yageo; Manufacturer Part Number: RC0805FR-0726K7L; Alternate Part Number-1: NA; Case/Package: 0805; Supplier-1: SIRICOM; Supplier Part Number-1: WR08X2672FTL
footprint RES_0805 (Resister)
pins: 1, 2

## RES_27mOHM-1W-1%-2512
designator R?, comment 27mOHM
27 mOhms ±1% 1W Chip Resistor 2512 (6432 Metric) Automotive AEC-Q200, Current Sense, Moisture Resistant Thick Film; Manufacturer: Yageo; Manufacturer Part Number: RL2512FK-070R027L; Alternate Part Number-1: 25121WJ027LT4E; Case/Package: 2512; Supplier-1: Aliepress; Supplier Part Number-1: WSL2512R027OF
footprint RES_2512 (CASE: 2512)
pins: 1, 2

## RES_30R-0.125W-5%-0805
designator R?, comment 30R
30 Ohms ±5% 0.125W, 1/8W Chip Resistor 0805 (2012 Metric) Moisture Resistant Thick Film; Manufacturer: Stackpole Electronics; Manufacturer Part Number: RC0805JR-0730RL; Alternate Part Number-1: NA; Case/Package: 0805; Supplier-1: SIRICOM; Supplier Part Number-1: WR08X30R0FTL
footprint RES_0805
pins: 1, 2

## RES_33K-0.125W-1%-0805
designator R?, comment 33K
Thick Film Resistors - SMD 33KOhms 1/8W 150V33 kOhms ±1% 0.125W, 1/8W Chip Resistor 0805 (2012 Metric) Thick Film; Manufacturer: Vishay BCcomponents; Manufacturer Part Number: CRG0805F33K; Alternate Part Number-1: NA; Case/Package: 0805; Supplier-1: SIRICOM; Supplier Part Number-1: WR08X3302FTL
footprint RES_0805
pins: 1, 2

## RES_39K-0.1W-1%-0603
designator R?, comment 39K
39 kOhms ±1% 0.1W, 1/10W Chip Resistor 0603 (1608 Metric) Automotive AEC-Q200, Moisture Resistant Thick Film; Manufacturer: TE Connectivity Passive Product; Manufacturer Part Number: CRGCQ0603F39K; Alternate Part Number-1: NA; Case/Package: 0603; Supplier-1: SIRICOM; Supplier Part Number-1: NA
footprint RES_0603 (CASE: 0603)
pins: 1, 2

## RES_39R-3W-5%-TH
designator R?, comment 39R
39 Ohms ±5% 3W Through Hole Resistor Axial Flame Proof, Safety Wirewound; Manufacturer: Stackpole Electronics; Manufacturer Part Number: RWM041039R0JR15E1; Alternate Part Number-1: NA; Case/Package: TH; Supplier-1: Mouser; Supplier Part Number-1: 72-RWM410-39-5
footprint RES_669_551X197_TH
pins: 1, 2

## RES_40.2K-0.125W-1%-0805
designator R?, comment 40.2K
40.2 kOhms ±1% 0.125W, 1/8W Chip Resistor 0805 (2012 Metric) Automotive AEC-Q200 Thick Film; Manufacturer: TE Connectivity; Manufacturer Part Number: RMCF0805FT40K2; Alternate Part Number-1: NA; Case/Package: 0805; Supplier-1: SIRICOM; Supplier Part Number-1: WR08X4022FTL
footprint RES_0805 (Resister)
pins: 1, 2

## RES_43.2K-0.125W-1%-0805
designator R?, comment 43.2K
43.2 kOhms ±1% 0.125W, 1/8W Chip Resistor 0805 (2012 Metric) Moisture Resistant Thick Film; Manufacturer: TE Connectivity; Manufacturer Part Number: RC0805FR-0743K2L; Alternate Part Number-1: NA; Case/Package: 0805; Supplier-1: SIRICOM; Supplier Part Number-1: WR08X4322FTL
footprint RES_0805 (Resister)
pins: 1, 2

## RES_49.9K-0.125W-1%-0805
designator R?, comment 49.9K
49.9 kOhms ±1% 0.125W, 1/8W Chip Resistor 0805 (2012 Metric) Anti-Sulfur, Automotive AEC-Q200 Thick Film; Manufacturer: Stackpole Electronics; Manufacturer Part Number: RCA080549K9FKEA; Alternate Part Number-1: NA; Case/Package: 0805; Supplier-1: SP ROAD; Supplier Part Number-1: RCA080549K9FKEA
footprint RES_0805
pins: 1, 2

## RES_49.9R-0.125W-1%-0805
designator R?, comment 49.9R
49.9 Ohms ±1% 0.125W, 1/8W Chip Resistor 0805 (2012 Metric) Moisture Resistant Metal Film; Manufacturer: Vishay Sfernice; Manufacturer Part Number: WR12X49R9FTL; Alternate Part Number-1: RS-05K49R9FT; Case/Package: 0805; Supplier-1: SIRICOM; Supplier Part Number-1: WR12X49R9FTL
footprint RES_0805
pins: 1, 2

## RES_50mOhm-2W-1%-2512
designator R?, comment 50mOHM
50 mOhms ±1% 2W Chip Resistor 2512 (6432 Metric) Automotive AEC-Q200, Current Sense, Moisture Resistant Metal Element; Manufacturer: Yageo; Manufacturer Part Number: PA2512FKF7W0R05E; Alternate Part Number-1: PMR100HZPFU5L00; Case/Package: 2512; Supplier-1: SIRICOM; Supplier Part Number-1: LR2512-22R060F1
footprint RES_2512
pins: 1, 2

## RES_51.1R-0.1W-1%-0603
designator R?, comment 51.1R
51.1 Ohms ±1% 0.1W, 1/10W Chip Resistor 0603 (1608 Metric) Thick Film; Manufacturer: Vishay Dale; Manufacturer Part Number: CRCW060351R1FKEAC; Alternate Part Number-1: NA; Case/Package: 0603; Supplier-1: Digikey; Supplier Part Number-1: 541-5468-1-ND - Cut Tape (CT)
footprint RES_0603 (CASE: 0603)
pins: 1, 2

## RES_53.6K-0.125W-1%-0805
designator R?, comment 53.6K
53.6 kOhms ±1% 0.125W, 1/8W Chip Resistor 0805 (2012 Metric) Moisture Resistant Thick Film; Manufacturer: Susumu; Manufacturer Part Number: RC0805FR-0753K6L; Alternate Part Number-1: NA; Case/Package: 0805; Supplier-1: SIRICOM; Supplier Part Number-1: WR08X5362FTL
footprint RES_0805 (Resister)
pins: 1, 2

## RES_64.9K-0.125W-1%-0805
designator R?, comment 64.9K
64.9 kOhms ±1% 0.125W, 1/8W Chip Resistor 0805 (2012 Metric) Moisture Resistant Thick Film; Manufacturer: Yageo; Manufacturer Part Number: RC0805FR-0764K9L; Alternate Part Number-1: NA; Case/Package: 0805; Supplier-1: Siricom; Supplier Part Number-1: NA
footprint RES_0805 (Resister)
pins: 1, 2

## RES_82K-0.1W-1%-0603
designator R?, comment 82K
82 kOhms ±1% 0.125W, 1/8W Chip Resistor 0603 (1608 Metric) Anti-Sulfur Thin Film; Manufacturer: Vishay Beyschlag; Manufacturer Part Number: MCT06030C8202FP500; Alternate Part Number-1: NA; Case/Package: 0603; Supplier-1: SIRICOM; Supplier Part Number-1: NA
footprint RES_0603 (CASE: 0603)
pins: 1, 2

## RES_88.5K-0.1W-0.1%-0805
designator R?, comment 88.5K
88.5 kOhms ±0.1% 0.1W, 1/10W Chip Resistor 0805 (2012 Metric) Anti-Corrosive, Automotive AEC-Q200, Moisture Resistant Thin Film; Manufacturer: Stackpole Electronics; Manufacturer Part Number: RNCS0805BTE88K5; Alternate Part Number-1: NA; Case/Package: 0805; Supplier-1: SIRICOM; Supplier Part Number-1: WR08X8872FTL
footprint RES_0805 (Resister)
pins: 1, 2

## RES_100K-0.1W-1%-0603
designator R?, comment 100K
100 kOhms ±1% 0.1W, 1/10W Chip Resistor 0603 (1608 Metric) Automotive AEC-Q200 Thick Film; Manufacturer: Stackpole Electronics; Manufacturer Part Number: RMCF0603FT100K; Alternate Part Number-1: NA; Case/Package: 0603; Supplier-1: Arrow; Supplier Part Number-1: RMCF0603FT100K
footprint RES_0603 (CASE: 0603)
pins: 1, 2

## RES_100K-0.125W-1%-0805
designator R?, comment 100K
100 kOhms ±1% 0.125W, 1/8W Chip Resistor 0805 (2012 Metric) Automotive AEC-Q200 Thick Film; Manufacturer: Walsin; Manufacturer Part Number: WR08X1003FTL; Alternate Part Number-1: NA; Case/Package: 0805; Supplier-1: SIRICOM; Supplier Part Number-1: WR08X1003FTL
footprint RES_0805
pins: 1, 2

## RES_100mOHM-1W-5%-2512
designator R?, comment 100mOHM
100 mOhms ±5% 1W Chip Resistor 2512 (6432 Metric) High Voltage, Non-Magnetic Thick Film; Manufacturer: CTS Resistor Products; Manufacturer Part Number: 73L7R10J; Alternate Part Number-1: CR2512J0R12E04; Case/Package: 2512; Supplier-1: SP ROAD; Supplier Part Number-1: NA
footprint RES_2512
pins: 1, 2

## RES_100mOHM-2W-1%-2512
designator R?, comment 100mOHM
100 mOhms ±1% 2W Chip Resistor 2512 (6432 Metric) Automotive AEC-Q200, Current Sense, Moisture Resistant Thick Film; Manufacturer: Stackpole Electronics; Manufacturer Part Number: RCWE2512R100FKEA; Alternate Part Number-1: NA; Case/Package: 2512; Supplier-1: SIRICOM; Supplier Part Number-1: RCWE2512R100FKEA
footprint RES_2512
pins: 1, 2

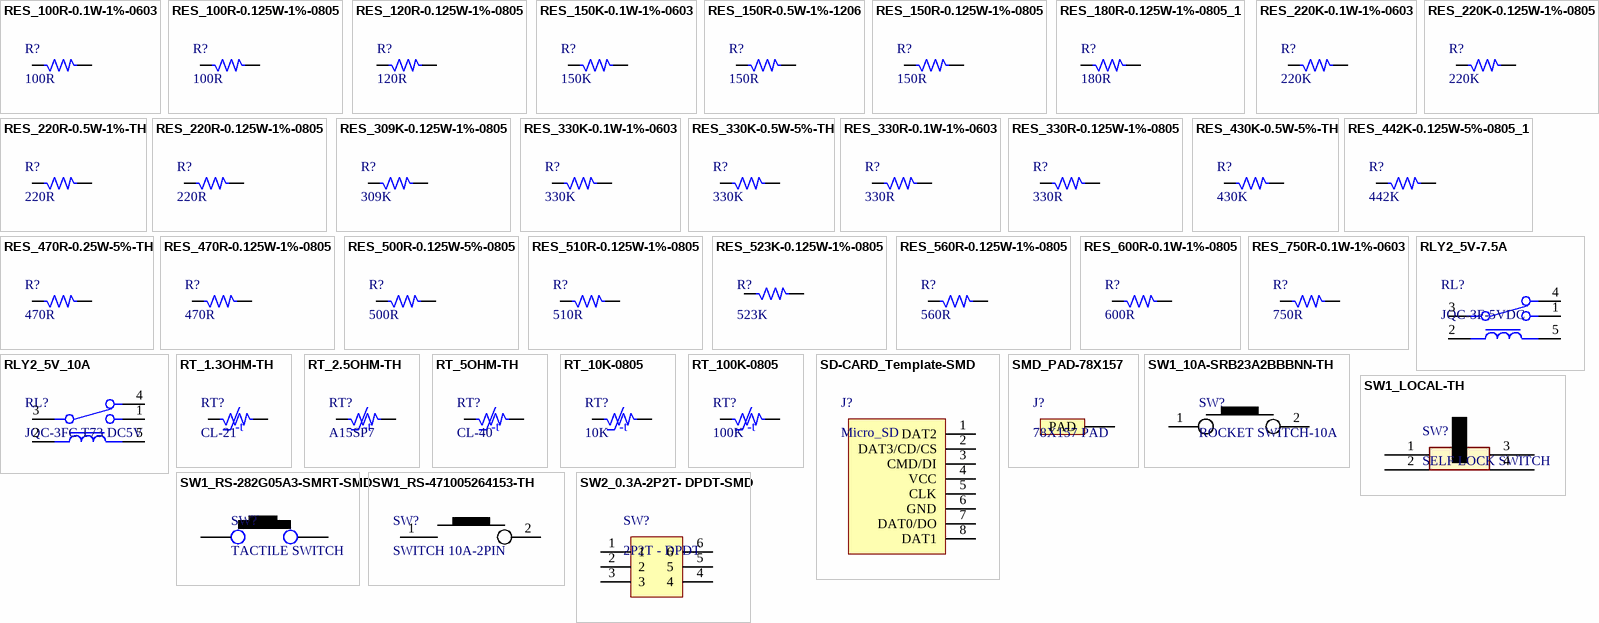
[diagram p17: symbols RES_100R-0.1W-1%-0603 to SW2_0.3A-2P2T- DPDT-SMD]

## RES_100R-0.1W-1%-0603
designator R?, comment 100R
100 Ohms ±1% 0.1W, 1/10W Chip Resistor 0603 (1608 Metric) Thick Film; Manufacturer: Walsin; Manufacturer Part Number: WR06X1000FTL; Alternate Part Number-1: MR06X1000FTL; Case/Package: 0603; Supplier-1: SIRICOM; Supplier Part Number-1: WALSIN:WR06X1000FTL
footprint RES_0603
pins: 1, 2

## RES_100R-0.125W-1%-0805
designator R?, comment 100R
100 Ohms ±1% 0.125W, 1/8W Chip Resistor 0805 (2012 Metric) Automotive AEC-Q200, Pulse Withstanding Thick Film; Manufacturer: Walsin; Manufacturer Part Number: WR08X1000FTL; Case/Package: 0805; Supplier-1: SIRICOM; Supplier Part Number-1: WR08X1000FTL; Alternate Part Number-1: WR08X1000FTL
footprint RES_0805
pins: 1, 2

## RES_120R-0.125W-1%-0805
designator R?, comment 120R
120 Ohms ±1% 0.125W, 1/8W Chip Resistor 0805 (2012 Metric) Automotive AEC-Q200, Moisture Resistant Thick Film; Manufacturer: Stackpole Electronics; Manufacturer Part Number: CRGCQ0805F120R; Alternate Part Number-1: NA; Case/Package: 0805; Supplier-1: SIRICOM; Supplier Part Number-1: WR08X1200FTL
footprint RES_0805 (Resister)
pins: 1, 2

## RES_150K-0.1W-1%-0603
designator R?, comment 150K
150 kOhms ±1% 0.1W, 1/10W Chip Resistor 0603 (1608 Metric) Moisture Resistant Thick Film; Manufacturer: Yageo; Manufacturer Part Number: RC0603FR-07150KL; Alternate Part Number-1: NA; Case/Package: 0603; Supplier-1: SIRICOM; Supplier Part Number-1: NA
footprint RES_0603 (CASE: 0603)
pins: 1, 2

## RES_150R-0.5W-1%-1206
designator R?, comment 150R
150 Ohms ±1% 0.5W, 1/2W Chip Resistor 1206 (3216 Metric) Anti-Sulfur, Moisture Resistant Thin Film; Manufacturer: KOA Speer; Manufacturer Part Number: RNCP1206FTD150R; Alternate Part Number-1: NA; Case/Package: 1206; Supplier-1: SIRICOM; Supplier Part Number-1: WF12P1500FTL
footprint RES_1206
pins: 1, 2

## RES_150R-0.125W-1%-0805
designator R?, comment 150R
150 Ohms ±1% 0.125W, 1/8W Chip Resistor 0805 (2012 Metric) Automotive AEC-Q200 Thick Film; Manufacturer: Walsin; Manufacturer Part Number: WR08X1500FTL; Alternate Part Number-1: NA; Case/Package: 0805; Supplier-1: SIRICOM; Supplier Part Number-1: WR12X1500FTL
footprint RES_0805
pins: 1, 2

## RES_180R-0.125W-1%-0805_1
designator R?, comment 180R
180 Ohms ±1% 0.125W, 1/8W Chip Resistor 0805 (2012 Metric) Automotive AEC-Q200, Moisture Resistant Thick Film; Manufacturer: Stackpole Electronics; Manufacturer Part Number: CRGCQ0805F120R; Alternate Part Number-1: NA; Case/Package: 0805; Supplier-1: SIRICOM; Supplier Part Number-1: WR08X1200FTL
footprint RES_0805 (Resister)
pins: 1, 2

## RES_220K-0.1W-1%-0603
designator R?, comment 220K
220 kOhms ±1% 0.1W, 1/10W Chip Resistor 0603 (1608 Metric) Automotive AEC-Q200 Thick Film; Manufacturer: Vishay Dale; Manufacturer Part Number: RMCF0603JT220K; Alternate Part Number-1: WR06X2203FTL; Case/Package: 0603; Supplier-1: SIRICOM; Supplier Part Number-1: WR06X2203FTL
footprint RES_0603
pins: 1, 2

## RES_220K-0.125W-1%-0805
designator R?, comment 220K
220 kOhms ±1% 0.125W, 1/8W Chip Resistor 0805 (2012 Metric) Automotive AEC-Q200 Thick Film; Manufacturer: Walsin; Manufacturer Part Number: WR08X2203FTL; Alternate Part Number-1: NA; Case/Package: 0805; Supplier-1: SIRICOM; Supplier Part Number-1: WR08X2203FTL
footprint RES_0805
pins: 1, 2

## RES_220R-0.5W-1%-TH
designator R?, comment 220R
220 Ohms ±1% 0.5W, 1/2W Through Hole Resistor Axial Flame Retardant Coating, Moisture Resistant, Safety Metal Film; Manufacturer: Ohmite; Manufacturer Part Number: CMF55220R00FHEK; Alternate Part Number-1: NA; Case/Package: TH; Supplier-1: Arrow; Supplier Part Number-1: CMF55220R00FHEK
footprint RES_319_TH
pins: 1, 2

## RES_220R-0.125W-1%-0805
designator R?, comment 220R
220 Ohms ±1% 0.125W, 1/8W Chip Resistor 0805 (2012 Metric) Automotive AEC-Q200 Thick Film; Manufacturer: Walsin; Manufacturer Part Number: WR08X2200FTL; Alternate Part Number-1: RS-05K2200FT; Case/Package: 0805; Supplier-1: SIRICOM; Supplier Part Number-1: WR08X2200FTL
footprint RES_0805
pins: 1, 2

## RES_309K-0.125W-1%-0805
designator R?, comment 309K
309 kOhms ±1% 0.125W, 1/8W Chip Resistor 0805 (2012 Metric) Moisture Resistant Thick Film; Manufacturer: Yageo; Manufacturer Part Number: RC0805FR-07309KL; Alternate Part Number-1: NA; Case/Package: 0805; Supplier-1: SIRICOM; Supplier Part Number-1: WR08X3301FTL
footprint RES_0805 (Resister)
pins: 1, 2

## RES_330K-0.1W-1%-0603
designator R?, comment 330K
330 kOhms ±1% 0.1W, 1/10W Chip Resistor 0603 (1608 Metric) Automotive AEC-Q200 Thick Film; Manufacturer: Walsin; Manufacturer Part Number: WR06X3303FTL; Alternate Part Number-1: 0603WAF3303T5E; Case/Package: 0603; Supplier-1: SIRICOM; Supplier Part Number-1: WR06X3303FTL
footprint RES_0603
pins: 1, 2

## RES_330K-0.5W-5%-TH
designator R?, comment 330K
330 kOhms ±5% 0.5W, 1/2W Through Hole Resistor Axial Flame Retardant Coating, High Voltage, Pulse Withstanding, Safety Metal Film; Manufacturer: Yageo; Manufacturer Part Number: HVR3700003303JR500; Alternate Part Number-1: NA; Case/Package: TH; Supplier-1: SP ROAD; Supplier Part Number-1: HVR3700003303JR500
footprint RES_539.3_TH
pins: 1, 2

## RES_330R-0.1W-1%-0603
designator R?, comment 330R
330 Ohms ±1% 0.1W, 1/10W Chip Resistor 0603 (1608 Metric) Automotive AEC-Q200, Moisture Resistant Thick Film; Manufacturer: Walsin; Manufacturer Part Number: WR06X3300FTL; Case/Package: 0603; Supplier-1: SIRICOM; Supplier Part Number-1: WR06X3300FTL; Alternate Part Number-1: WR06X3300FTL
footprint RES_0603
pins: 1, 2

## RES_330R-0.125W-1%-0805
designator R?, comment 330R
330 Ohms ±1% 0.125W, 1/8W Chip Resistor 0805 (2012 Metric) Automotive AEC-Q200 Thick Film; Manufacturer: Walsin; Manufacturer Part Number: WR08X3300FTL; Alternate Part Number-1: NA; Case/Package: 0805; Supplier-1: SIRICOM; Supplier Part Number-1: WR08X3300FTL
footprint RES_0805
pins: 1, 2

## RES_430K-0.5W-5%-TH
designator R?, comment 430K
430 kOhms ±5% 0.5W, 1/2W Through Hole Resistor Axial Carbon Film; Manufacturer: Stackpole Electronics; Manufacturer Part Number: CFR-50JB-52-430K; Alternate Part Number-1: NA; Case/Package: TH; Supplier-1: SP ROAD; Supplier Part Number-1: CFR-50JB-52-430K
footprint RES_539.3_TH (Pitch 13.7mm)
pins: 1, 2